# EAGLE library part BSP742T (library mosfet-infineon)
BSP742T Smart Power High-Side-Switch, VBB 41V, R(ON) 350mOhm SOIC127P600X175-8N-21
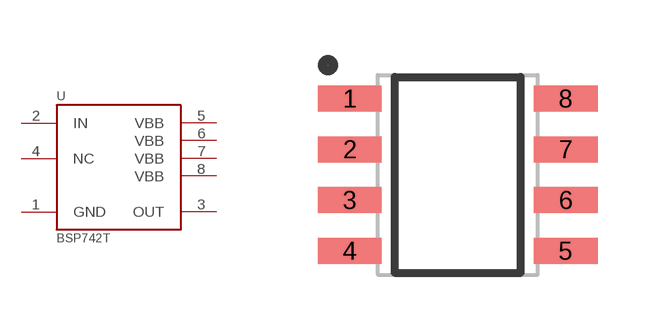
[diagram p41: symbol with the pads of SOIC127P600X175-8N-21; footprint SOIC127P600X175-8N-21]

Designator prefix U

## BSP742T  [SOIC127P600X175-8N-21]
1  GND  pwr
2  IN  in
3  OUT  out
4  NC  pas
5  VBB  pwr
6  VBB  pwr
7  VBB  pwr
8  VBB  pwr

## Footprint SOIC127P600X175-8N-21 (pad centres in mm)
Original name SOIC127P600X175-8N-21 Max Component Height - 1.75mm
smd 1.6 x 0.65: 1 -2.7,1.905; 2 -2.7,0.635; 3 -2.7,-0.635; 4 -2.7,-1.905; 5 2.7,-1.905; 6 2.7,-0.635; 7 2.7,0.635; 8 2.7,1.905